# Altium footprint library varistor.PCBLIB: 90 footprints (part 6 of 6)
Each footprint in its own frame and in the unit in brackets; x right, y up, seen from the top. Pads: shape width x height; smd on the part's side, far side on the other; paste and mask are expansions set on the pad; w line width, h text height; cw(c..) or ccw(c..) is an arc to the next point about the centre after c.
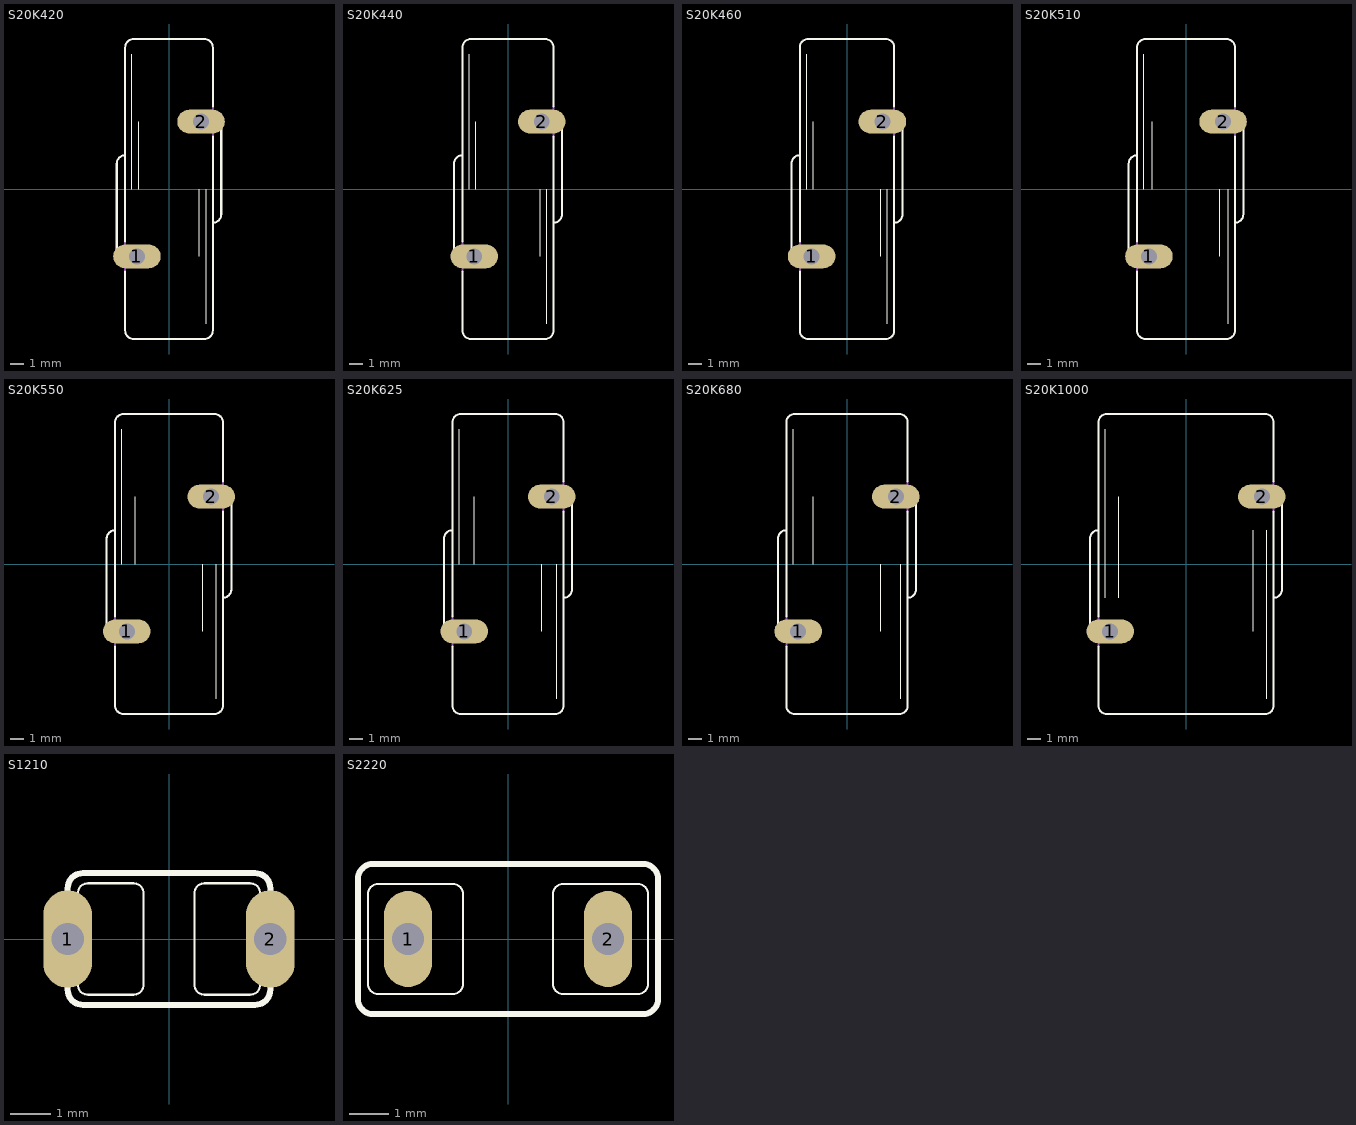
[diagram p5: the footprints below, top view; thin cyan lines are the x and y axes]

## S20K420 [mil]
pads (2):
  oval 141x70.5 hole 47: 1(-95,-200) 2(95,200)
Top Overlay:
  lines w2: -110,0 -110,400 ; -90,0 -90,200 ; 90,-200 90,0 ; 110,-400 110,0
  lines w6: -155,-195 -155,75 cw(c-130,75) -130,100 ; -130,-245 -130,-420 ccw(c-105,-420) -105,-445 105,-445 ccw(c105,-420) 130,-420 130,155 ; -130,-155 -130,420 cw(c-105,420) -105,445 105,445 cw(c105,420) 130,420 130,245 ; 130,-100 ccw(c130,-75) 155,-75 155,195
Mechanical 16:
  lines w6: -155,-195 ccw(c-130,-195) -130,-220 ; -130,-245 -130,-155 ; 130,155 130,245 ; 130,220 cw(c130,195) 155,195

## S20K440 [mil]
pads (2):
  oval 141x70.5 hole 47: 1(-100,-200) 2(100,200)
Top Overlay:
  lines w2: -115,0 -115,400 ; -95,0 -95,200 ; 95,-200 95,0 ; 115,-400 115,0
  lines w6: -160,-195 -160,75 cw(c-135,75) -135,100 ; -135,-245 -135,-420 ccw(c-110,-420) -110,-445 110,-445 ccw(c110,-420) 135,-420 135,155 ; -135,-155 -135,420 cw(c-110,420) -110,445 110,445 cw(c110,420) 135,420 135,245 ; 135,-100 ccw(c135,-75) 160,-75 160,195
Mechanical 16:
  lines w6: -160,-195 ccw(c-135,-195) -135,-220 ; -135,-245 -135,-155 ; 135,155 135,245 ; 135,220 cw(c135,195) 160,195

## S20K460 [mil]
pads (2):
  oval 141x70.5 hole 47: 1(-105,-200) 2(105,200)
Top Overlay:
  lines w2: -120,0 -120,400 ; -100,0 -100,200 ; 100,-200 100,0 ; 120,-400 120,0
  lines w6: -165,-195 -165,75 cw(c-140,75) -140,100 ; -140,-245 -140,-420 ccw(c-115,-420) -115,-445 115,-445 ccw(c115,-420) 140,-420 140,155 ; -140,-155 -140,420 cw(c-115,420) -115,445 115,445 cw(c115,420) 140,420 140,245 ; 140,-100 ccw(c140,-75) 165,-75 165,195
Mechanical 16:
  lines w6: -165,-195 ccw(c-140,-195) -140,-220 ; -140,-245 -140,-155 ; 140,155 140,245 ; 140,220 cw(c140,195) 165,195

## S20K510 [mil]
pads (2):
  oval 141x70.5 hole 47: 1(-110,-200) 2(110,200)
Top Overlay:
  lines w2: -125,0 -125,400 ; -100,0 -100,200 ; 100,-200 100,0 ; 125,-400 125,0
  lines w6: -170,-195 -170,75 cw(c-145,75) -145,100 ; -145,-245 -145,-420 ccw(c-120,-420) -120,-445 120,-445 ccw(c120,-420) 145,-420 145,155 ; -145,-155 -145,420 cw(c-120,420) -120,445 120,445 cw(c120,420) 145,420 145,245 ; 145,-100 ccw(c145,-75) 170,-75 170,195
Mechanical 16:
  lines w6: -170,-195 ccw(c-145,-195) -145,-220 ; -145,-245 -145,-155 ; 145,155 145,245 ; 145,220 cw(c145,195) 170,195

## S20K550 [mil]
pads (2):
  oval 141x70.5 hole 47: 1(-125,-200) 2(125,200)
Top Overlay:
  lines w2: -140,0 -140,400 ; -100,0 -100,200 ; 100,-200 100,0 ; 140,-400 140,0
  lines w6: -185,-195 -185,75 cw(c-160,75) -160,100 ; -160,-245 -160,-420 ccw(c-135,-420) -135,-445 135,-445 ccw(c135,-420) 160,-420 160,155 ; -160,-155 -160,420 cw(c-135,420) -135,445 135,445 cw(c135,420) 160,420 160,245 ; 160,-100 ccw(c160,-75) 185,-75 185,195
Mechanical 16:
  lines w6: -185,-195 ccw(c-160,-195) -160,-220 ; -160,-245 -160,-155 ; 160,155 160,245 ; 160,220 cw(c160,195) 185,195

## S20K625 [mil]
pads (2):
  oval 141x70.5 hole 47: 1(-130,-200) 2(130,200)
Top Overlay:
  lines w2: -145,0 -145,400 ; -100,0 -100,200 ; 100,-200 100,0 ; 145,-400 145,0
  lines w6: -190,-195 -190,75 cw(c-165,75) -165,100 ; -165,-245 -165,-420 ccw(c-140,-420) -140,-445 140,-445 ccw(c140,-420) 165,-420 165,155 ; -165,-155 -165,420 cw(c-140,420) -140,445 140,445 cw(c140,420) 165,420 165,245 ; 165,-100 ccw(c165,-75) 190,-75 190,195
Mechanical 16:
  lines w6: -190,-195 ccw(c-165,-195) -165,-220 ; -165,-245 -165,-155 ; 165,155 165,245 ; 165,220 cw(c165,195) 190,195

## S20K680 [mil]
pads (2):
  oval 141x70.5 hole 47: 1(-145,-200) 2(145,200)
Top Overlay:
  lines w2: -160,0 -160,400 ; -100,0 -100,200 ; 100,-200 100,0 ; 160,-400 160,0
  lines w6: -205,-195 -205,75 cw(c-180,75) -180,100 ; -180,-245 -180,-420 ccw(c-155,-420) -155,-445 155,-445 ccw(c155,-420) 180,-420 180,155 ; -180,-155 -180,420 cw(c-155,420) -155,445 155,445 cw(c155,420) 180,420 180,245 ; 180,-100 ccw(c180,-75) 205,-75 205,195
Mechanical 16:
  lines w6: -205,-195 ccw(c-180,-195) -180,-220 ; -180,-245 -180,-155 ; 180,155 180,245 ; 180,220 cw(c180,195) 205,195

## S20K1000 [mil]
pads (2):
  oval 141x70.5 hole 47: 1(-225,-200) 2(225,200)
Top Overlay:
  lines w2: -240,-100 -240,400 ; -200,-100 -200,200 ; 200,-200 200,100 ; 240,-400 240,100
  lines w6: -285,-195 -285,75 cw(c-260,75) -260,100 ; -260,-245 -260,-420 ccw(c-235,-420) -235,-445 235,-445 ccw(c235,-420) 260,-420 260,155 ; -260,-155 -260,420 cw(c-235,420) -235,445 235,445 cw(c235,420) 260,420 260,245 ; 260,-100 ccw(c260,-75) 285,-75 285,195
Mechanical 16:
  lines w6: -285,-195 ccw(c-260,-195) -260,-220 ; -260,-245 -260,-155 ; 260,155 260,245 ; 260,220 cw(c260,195) 285,195

## S1210 [mil]
pads (2):
  oval 48x96 hole 32: 1(-100,0) 2(100,0)
Top Overlay:
  lines w2: -90,-45 ccw(c-80,-45) -80,-55 -35,-55 ccw(c-35,-45) -25,-45 -25,45 ccw(c-35,45) -35,55 -80,55 ccw(c-80,45) -90,45 ; 90,-45 cw(c80,-45) 80,-55 35,-55 cw(c35,-45) 25,-45 25,45 cw(c35,45) 35,55 80,55 cw(c80,45) 90,45
  lines w6: -100,-35 -100,-50 ccw(c-85,-50) -85,-65 85,-65 ccw(c85,-50) 100,-50 100,-35 ; -100,35 -100,50 cw(c-85,50) -85,65 85,65 cw(c85,50) 100,50 100,35
Mechanical 16:
  lines w2: -90,-45 -90,45 ; 90,-45 90,45
  lines w6: -100,-35 -100,35 ; 100,-35 100,35

## S2220 [mil]
pads (2):
  oval 48x96 hole 32: 1(-100,0) 2(100,0)
Top Overlay:
  lines w2: -140,-45 -140,45 cw(c-130,45) -130,55 -55,55 cw(c-55,45) -45,45 -45,-45 cw(c-55,-45) -55,-55 -130,-55 cw(c-130,-45) -140,-45 ; 45,-45 45,45 cw(c55,45) 55,55 130,55 cw(c130,45) 140,45 140,-45 cw(c130,-45) 130,-55 55,-55 cw(c55,-45) 45,-45
  lines w6: -150,-60 ccw(c-135,-60) -135,-75 135,-75 ccw(c135,-60) 150,-60 150,60 ccw(c135,60) 135,75 -135,75 ccw(c-135,60) -150,60 -150,-60